# Altium footprint library car.PcbLib: 42 footprints (part 2 of 3)
Each footprint in its own frame and in the unit in brackets; x right, y up, seen from the top. Pads: shape width x height; smd on the part's side, far side on the other; paste and mask are expansions set on the pad; w line width, h text height; cw(c..) or ccw(c..) is an arc to the next point about the centre after c.
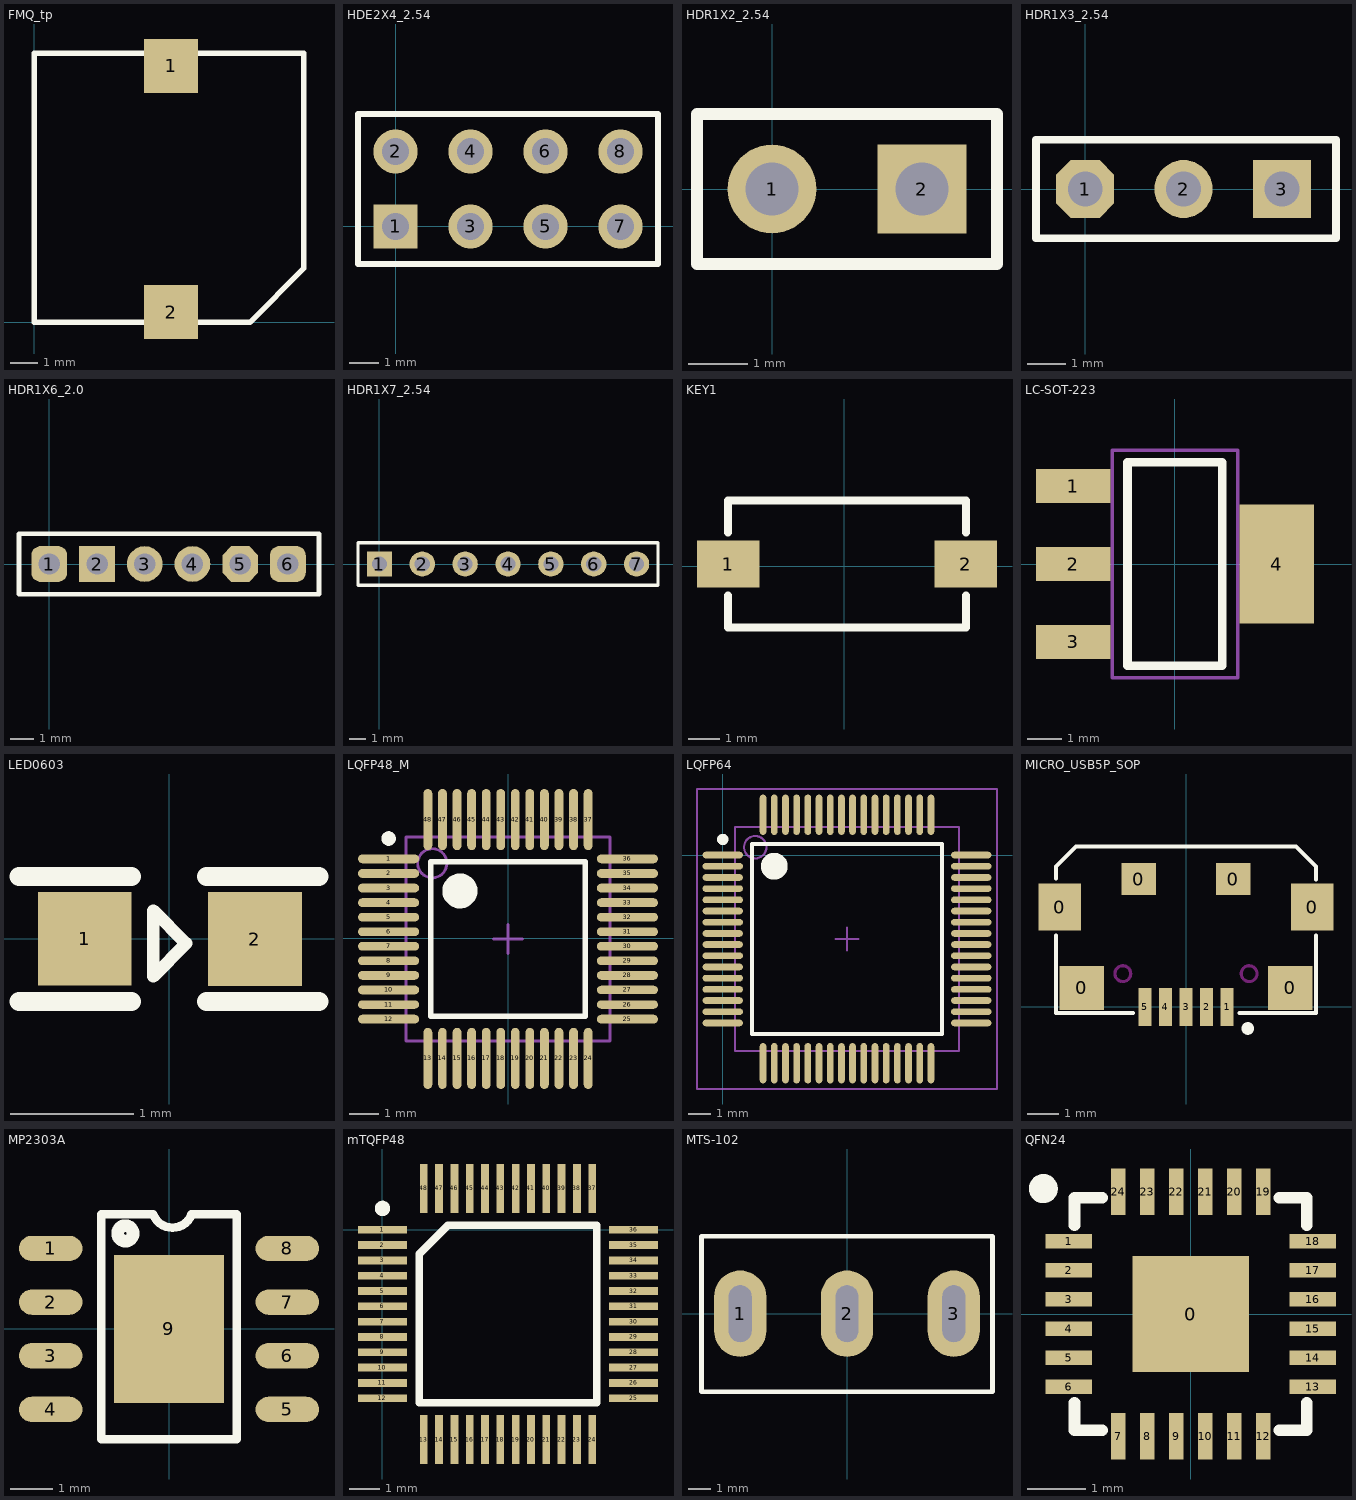
[diagram p1: the footprints below, top view; thin cyan lines are the x and y axes]

## FMQ_tp [mm] "Connector; Header; 6 Position"
pads (2):
  rect 2x2 smd: 1(5.08,9.525) 2(5.08,0.381)
Top Overlay:
  lines w0.2: 0,0 0,10 10,10 10,1.999 8.001,0 0,0

## HDE2X4_2.54 [mm]
pads (8):
  rect 1.5x1.5 hole 0.9: 1(0,0)
  round 1.5 hole 0.9: 2(0,2.54) 3(2.54,0) 4(2.54,2.54) 5(5.08,0) 6(5.08,2.54) 7(7.62,0) 8(7.62,2.54)
Top Overlay:
  lines w0.2: -1.27,-1.27 8.89,-1.27 8.89,3.81 -1.27,3.81 -1.27,-1.27

## HDR1X2_2.54 [mm] "Connector; Header; 6 Position"
pads (2):
  round 1.5 hole 0.9: 1(0,0)
  rect 1.5x1.5 hole 0.9: 2(2.54,0)
Top Overlay:
  lines w0.2: -1.27,-1.27 -1.27,1.27 3.81,1.27 3.81,-1.27 -1.27,-1.27

## HDR1X3_2.54 [mm] "Connector; Header; 6 Position"
pads (3):
  oct 1.5x1.5 hole 0.9: 1(0,0)
  round 1.5 hole 0.9: 2(2.54,0)
  rect 1.5x1.5 hole 0.9: 3(5.08,0)
Top Overlay:
  lines w0.2: -1.27,-1.27 6.477,-1.27 6.477,1.27 -1.27,1.27 -1.27,-1.27

## HDR1X6_2.0 [mm] "Connector; Header; 6 Position"
pads (6):
  rrect50% 1.5x1.5 hole 0.9: 1(0,0) 6(10,0)
  rect 1.5x1.5 hole 0.9: 2(2,0)
  round 1.5 hole 0.9: 3(4,0) 4(6,0)
  oct 1.5x1.5 hole 0.9: 5(8,0)
Top Overlay:
  lines w0.2: -1.27,-1.27 -1.27,1.27 11.303,1.27 11.303,-1.27 -1.27,-1.27

## HDR1X7_2.54 [mm] "Connector; Header; 6 Position"
pads (7):
  rect 1.5x1.5 hole 0.9: 1(0,0)
  round 1.5 hole 0.9: 2(2.54,0) 3(5.08,0) 4(7.62,0) 5(10.16,0) 6(12.7,0) 7(15.24,0)
Top Overlay:
  lines w0.2: -1.27,-1.27 -1.27,1.27 16.51,1.27 16.51,-1.27 -1.27,-1.27

## KEY1 [mm] "拨动开关"
pads (2):
  rect 2x1.5 smd: 1(-3.721,0.072) 2(3.899,0.072)
Top Overlay:
  lines w0.254: -3.721,-0.944 -3.721,-1.96 3.899,-1.96 3.899,-0.944 ; -3.721,1.088 -3.721,2.104 3.899,2.104 3.899,1.088

## LC-SOT-223 [mm]
height 2
pads (4):
  rect 2.2x1 smd: 1(-3,2.3) 2(-3,0) 3(-3,-2.3)
  rect 2.2x3.5 smd: 4(3,0)
Top Overlay:
  lines w0.254: -1.4,-3 -1.4,3 1.4,3 1.4,-3 -1.4,-3
Mechanical 13:
  lines w0.1: -1.85,-3.35 -1.85,3.35 1.85,3.35 1.85,-3.35 -1.85,-3.35
3D body: height 1.64, standoff -0.04, extent -3.49,-3.243 3.49,3.242

## LED0603 [mil] "LED"
pads (2):
  rect 30x30 smd: 1(-27,0) 2(27.5,-0.06)
Top Overlay:
  lines w4: -5,-12 -5,9 5.5,-1.5 -5,-12
  lines w6: -48,-20.06 -12,-20.06 ; -48,19.94 -12,19.94 ; 12,-20.06 48,-20.06 ; 12,19.94 48,19.94

## LQFP48_M [mm]
pads (48):
  oval 2.1x0.3 smd: 1(-4.1,2.725) 2(-4.1,2.225) 3(-4.1,1.725) 4(-4.1,1.225) 5(-4.1,0.725) 6(-4.1,0.225) 7(-4.1,-0.275) 8(-4.1,-0.775) 9(-4.1,-1.275) 10(-4.1,-1.775) 12(-4.1,-2.775) 25(4.1,-2.775) 28(4.1,-1.275) 29(4.1,-0.775) 30(4.1,-0.275) 31(4.1,0.225) 32(4.1,0.725) 33(4.1,1.225) 34(4.1,1.725) 35(4.1,2.225) 36(4.1,2.725)
  oval 2.1x0.29 smd: 11(-4.1,-2.275) 26(4.1,-2.275) 27(4.1,-1.775)
  oval 0.3x2.1 smd: 13(-2.75,-4.125) 15(-1.75,-4.125) 16(-1.25,-4.125) 17(-0.75,-4.125) 18(-0.25,-4.125) 20(0.75,-4.125) 21(1.25,-4.125) 22(1.75,-4.125) 23(2.25,-4.125) 24(2.75,-4.125) 37(2.75,4.075) 38(2.25,4.075) 39(1.75,4.075) 40(1.25,4.075) 41(0.75,4.075) 43(-0.25,4.075) 44(-0.75,4.075) 45(-1.25,4.075) 46(-1.75,4.075) 47(-2.25,4.075) 48(-2.75,4.075)
  oval 0.29x2.1 smd: 14(-2.25,-4.125) 19(0.25,-4.125) 42(0.25,4.075)
Top Overlay:
  circle w0.6: c-1.65,1.625 r0.3
  circle w0.25: c-4.1,3.425 r0.125
  lines w0.2: -2.65,-2.675 2.65,-2.675 2.65,2.625 -2.65,2.625 -2.65,-2.675
Mechanical 13:
  circle w0.1: c-2.6,2.575 r0.5
  lines w0.1: -3.5,-3.525 3.5,-3.525 3.5,3.475 -3.5,3.475 -3.5,-3.525
Mechanical 15:
  lines w0.1: -0.5,-0.025 0.5,-0.025 ; 0,-0.525 0,0.475

## LQFP64 [mm]
height 5.6
pads (64):
  oval 1.8x0.3 smd: 1(0,0) 2(0,-0.5) 3(0,-1) 4(0,-1.5) 5(0,-2) 6(0,-2.5) 7(0,-3) 8(0,-3.5) 9(0,-4) 10(0,-4.5) 11(0,-5) 12(0,-5.5) 13(0,-6) 14(0,-6.5) 15(0,-7) 16(0,-7.5) 33(11.1,-7.5) 34(11.1,-7) 35(11.1,-6.5) 36(11.1,-6) 37(11.1,-5.5) 38(11.1,-5) 39(11.1,-4.5) 40(11.1,-4) 41(11.1,-3.5) 42(11.1,-3) 43(11.1,-2.5) 44(11.1,-2) 45(11.1,-1.5) 46(11.1,-1) 47(11.1,-0.5) 48(11.1,0)
  oval 0.3x1.8 smd: 17(1.8,-9.3) 18(2.3,-9.3) 19(2.8,-9.3) 20(3.3,-9.3) 21(3.8,-9.3) 22(4.3,-9.3) 23(4.8,-9.3) 24(5.3,-9.3) 25(5.8,-9.3) 26(6.3,-9.3) 27(6.8,-9.3) 28(7.3,-9.3) 29(7.8,-9.3) 30(8.3,-9.3) 31(8.8,-9.3) 32(9.3,-9.3) 49(9.3,1.8) 50(8.8,1.8) 51(8.3,1.8) 52(7.8,1.8) 53(7.3,1.8) 54(6.8,1.8) 55(6.3,1.8) 56(5.8,1.8) 57(5.3,1.8) 58(4.8,1.8) 59(4.3,1.8) 60(3.8,1.8) 61(3.3,1.8) 62(2.8,1.8) 63(2.3,1.8) 64(1.8,1.8)
Top Overlay:
  circle w0.6: c2.3,-0.5 r0.3
  circle w0.25: c0,0.7 r0.125
  lines w0.178: 1.3,-8 9.8,-8 9.8,0.5 1.3,0.5 1.3,-8
Mechanical 13:
  circle w0.1: c1.45,0.35 r0.5
  lines w0.1: 0.55,-8.75 10.55,-8.75 10.55,1.25 0.55,1.25 0.55,-8.75
Mechanical 15:
  lines w0.1: 5.05,-3.75 6.05,-3.75 ; 5.55,-4.25 5.55,-3.25 ; -1.15,-10.45 12.25,-10.45 12.25,2.95 -1.15,2.95 -1.15,-10.45
3D body: height 1.6, standoff 0, extent 0.55,-8.75 10.55,1.25

## MICRO_USB5P_SOP [mm]
pads (11):
  rect 1.35x1.5 smd: 0(-4,3.16) 0(4,3.16)
  rect 1.4x1.4 smd: 0(-3.3,0.6) 0(3.3,0.6)
  rect 1.1x1 smd: 0(-1.5,4.046) 0(1.5,4.046)
  rect 0.4x1.2 smd: 1(1.3,0) 2(0.65,0) 3(0,0) 4(-0.65,0) 5(-1.3,0)
Top Overlay:
  circle w0.2: c1.957,-0.686 r0.1
  lines w0.127: -4.115,2.261 -4.115,-0.203 -1.676,-0.203 ; -4.115,4.064 -4.115,4.445 -3.48,5.08 3.48,5.08 4.115,4.445 4.115,4.039 ; 1.702,-0.203 4.115,-0.203 4.115,2.261
Keep-Out Layer:
  circle w0.1: c-2,1.05 r0.25
  circle w0.1: c2,1.05 r0.25

## MP2303A [mm]
pads (9):
  oval 1.5x0.6 smd: 1(-2.8,1.905) 2(-2.8,0.635) 3(-2.8,-0.635) 4(-2.8,-1.905) 5(2.8,-1.905) 6(2.8,-0.635) 7(2.8,0.635) 8(2.8,1.905)
  rect 2.6x3.5 smd: 9(0,0)
Top Overlay:
  circle w0.3: c-1.033,2.26 r0.183
  lines w0.203: -0.371,2.705 ccw(c0.08,2.878) 0.533,2.71 1.6,2.71 1.6,-2.61 -1.6,-2.61 -1.6,2.71 -0.371,2.71

## mTQFP48 [mm]
pads (48):
  rect 1.6x0.254 smd: 1(0,0) 2(0,-0.5) 3(0,-1) 4(0,-1.5) 5(0,-2) 6(0,-2.5) 7(0,-3) 8(0,-3.5) 9(0,-4) 10(0,-4.5) 11(0,-5) 12(0,-5.5) 25(8.2,-5.5) 26(8.2,-5) 27(8.2,-4.5) 28(8.2,-4) 29(8.2,-3.5) 30(8.2,-3) 31(8.2,-2.5) 32(8.2,-2) 33(8.2,-1.5) 34(8.2,-1) 35(8.2,-0.5) 36(8.2,0)
  rect 0.254x1.6 smd: 13(1.35,-6.85) 14(1.85,-6.85) 15(2.35,-6.85) 16(2.85,-6.85) 17(3.35,-6.85) 18(3.85,-6.85) 19(4.35,-6.85) 20(4.85,-6.85) 21(5.35,-6.85) 22(5.85,-6.85) 23(6.35,-6.85) 24(6.85,-6.85) 37(6.85,1.35) 38(6.35,1.35) 39(5.85,1.35) 40(5.35,1.35) 41(4.85,1.35) 42(4.35,1.35) 43(3.85,1.35) 44(3.35,1.35) 45(2.85,1.35) 46(2.35,1.35) 47(1.85,1.35) 48(1.35,1.35)
Top Overlay:
  circle w0.25: c0,0.7 r0.125
  lines w0.2: 1.2,-5.65 7,-5.65 7,0.15
  lines w0.254: 1.2,-0.792 2.142,0.15 ; 1.2,-0.792 1.2,-5.65 7,-5.65 7,0.15 2.826,0.15 2.142,0.15 ; 1.2,-0.792 2.142,0.15

## MTS-102 [mm]
pads (3):
  oval 2.3x3.8 hole 1 slot 2.5 at 90 deg: 1(-4.7,0) 2(0,0) 3(4.7,0)
Top Overlay:
  lines w0.203: -6.4,-3.429 -6.4,3.4 6.4,3.4 6.4,-3.429 -6.4,-3.429
Mechanical 2:
  lines w0.025: 0,0.127 0,0 0.127,0

## QFN24 [mm] "QFN, 24-Leads, Body 4.0x4.0mm (max), Pitch 0.50mm, IPC Medium Density"
height 0.9
pads (25):
  rect 2x2 smd: 0(0,0)
  rect 0.8x0.25 smd: 1(-2.101,1.25) 2(-2.101,0.75) 3(-2.101,0.25) 4(-2.101,-0.25) 5(-2.101,-0.75) 6(-2.101,-1.25) 13(2.101,-1.25) 14(2.101,-0.75) 15(2.101,-0.25) 16(2.101,0.25) 17(2.101,0.75) 18(2.101,1.25)
  rect 0.25x0.8 smd: 7(-1.25,-2.101) 8(-0.75,-2.101) 9(-0.25,-2.101) 10(0.25,-2.101) 11(0.75,-2.101) 12(1.25,-2.101) 19(1.25,2.101) 20(0.75,2.101) 21(0.25,2.101) 22(-0.25,2.101) 23(-0.75,2.101) 24(-1.25,2.101)
Top Overlay:
  circle w0.25: c-2.538,2.159 r0.125
  lines w0.2: -2,-1.525 -2,-2 -1.525,-2 ; -2,1.525 -2,2 -1.525,2 ; 1.525,-2 2,-2 2,-1.525 ; 1.525,2 2,2 2,1.525